# Altium footprint library Connector_Wire.PcbLib: 326 footprints (part 11 of 21)
Each footprint in its own frame and in the unit in brackets; x right, y up, seen from the top. Pads: shape width x height; smd on the part's side, far side on the other; paste and mask are expansions set on the pad; w line width, h text height; cw(c..) or ccw(c..) is an arc to the next point about the centre after c.
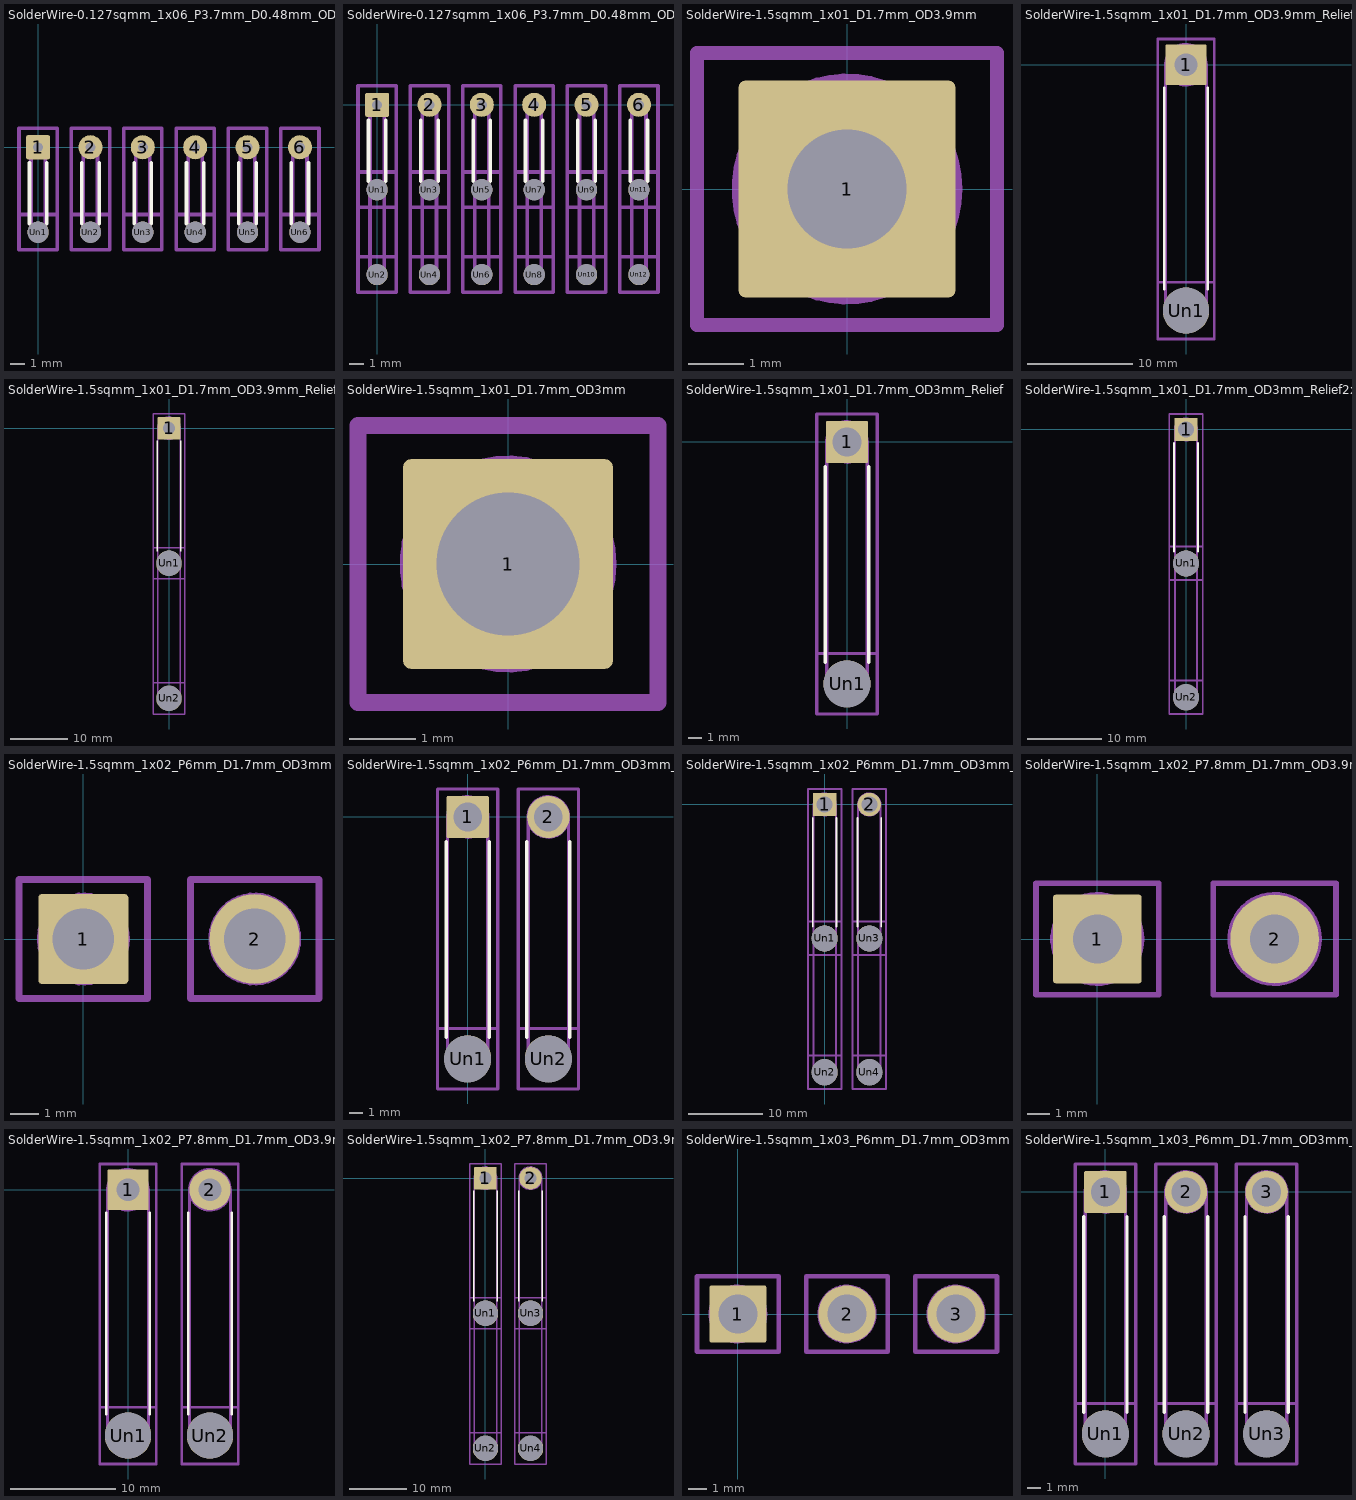
[diagram p10: the footprints below, top view; thin cyan lines are the x and y axes]

## SolderWire-0.127sqmm_1x06_P3.7mm_D0.48mm_OD1mm_Relief [mm]
pads (12):
  rrect15% 1.7x1.7 hole 0.7: 1(0,0)
  round 1.7 hole 0.7: 2(3.7,0) 3(7.4,0) 4(11.1,0) 5(14.8,0) 6(18.5,0)
  round 1.5 hole 1.5: Un1(0,-6) Un2(3.7,-6) Un3(7.4,-6) Un4(11.1,-6) Un5(14.8,-6) Un6(18.5,-6)
F.SilkS:
  lines w0.254: -0.61,-5.39 -0.61,-1.11 ; 0.61,-5.39 0.61,-1.11 ; 3.09,-5.39 3.09,-1.11 ; 4.31,-5.39 4.31,-1.11 ; 6.79,-5.39 6.79,-1.11 ; 8.01,-5.39 8.01,-1.11 ; 10.49,-5.39 10.49,-1.11 ; 11.71,-5.39 11.71,-1.11 ; 14.19,-5.39 14.19,-1.11 ; 15.41,-5.39 15.41,-1.11 ; 17.89,-5.39 17.89,-1.11 ; 19.11,-5.39 19.11,-1.11
Top Assembly:
  circle w0.254: c18.5,-6 r0.5
  circle w0.254: c18.5,0 r0.5
  circle w0.254: c14.8,-6 r0.5
  circle w0.254: c14.8,0 r0.5
  circle w0.254: c11.1,-6 r0.5
  circle w0.254: c11.1,0 r0.5
  circle w0.254: c7.4,-6 r0.5
  circle w0.254: c7.4,0 r0.5
  circle w0.254: c3.7,-6 r0.5
  circle w0.254: c3.7,0 r0.5
  circle w0.254: c0,-6 r0.5
  circle w0.254: c0,0 r0.5
  lines w0.254: -0.5,-6 -0.5,0 ; 0.5,-6 0.5,0 ; 3.2,-6 3.2,0 ; 4.2,-6 4.2,0 ; 6.9,-6 6.9,0 ; 7.9,-6 7.9,0 ; 10.6,-6 10.6,0 ; 11.6,-6 11.6,0 ; 14.3,-6 14.3,0 ; 15.3,-6 15.3,0 ; 18,-6 18,0 ; 19,-6 19,0
  text "'.Designator'" at 9.922,-6.237 h0.8
Top Courtyard:
  lines w0.254: -1.35,-7.25 1.35,-7.25 1.35,1.35 -1.35,1.35 -1.35,-7.25 ; 2.35,-7.25 5.05,-7.25 5.05,1.35 2.35,1.35 2.35,-7.25 ; 6.05,-7.25 8.75,-7.25 8.75,1.35 6.05,1.35 6.05,-7.25 ; 9.75,-7.25 12.45,-7.25 12.45,1.35 9.75,1.35 9.75,-7.25 ; 13.45,-7.25 16.15,-7.25 16.15,1.35 13.45,1.35 13.45,-7.25 ; 17.15,-7.25 19.85,-7.25 19.85,1.35 17.15,1.35 17.15,-7.25
Bottom Courtyard:
  lines w0.254: -1.35,-7.25 1.35,-7.25 1.35,-4.75 -1.35,-4.75 -1.35,-7.25 ; 2.35,-7.25 5.05,-7.25 5.05,-4.75 2.35,-4.75 2.35,-7.25 ; 6.05,-7.25 8.75,-7.25 8.75,-4.75 6.05,-4.75 6.05,-7.25 ; 9.75,-7.25 12.45,-7.25 12.45,-4.75 9.75,-4.75 9.75,-7.25 ; 13.45,-7.25 16.15,-7.25 16.15,-4.75 13.45,-4.75 13.45,-7.25 ; 17.15,-7.25 19.85,-7.25 19.85,-4.75 17.15,-4.75 17.15,-7.25
Top Designator:
  text ".Designator" at 1.632,-3.458 h1.52

## SolderWire-0.127sqmm_1x06_P3.7mm_D0.48mm_OD1mm_Relief2x [mm]
pads (18):
  rrect15% 1.7x1.7 hole 0.7: 1(0,0)
  round 1.7 hole 0.7: 2(3.7,0) 3(7.4,0) 4(11.1,0) 5(14.8,0) 6(18.5,0)
  round 1.5 hole 1.5: Un1(0,-6) Un2(0,-12) Un3(3.7,-6) Un4(3.7,-12) Un5(7.4,-6) Un6(7.4,-12) Un7(11.1,-6) Un8(11.1,-12) Un9(14.8,-6) Un10(14.8,-12) Un11(18.5,-6) Un12(18.5,-12)
F.SilkS:
  lines w0.254: -0.61,-5.39 -0.61,-1.11 ; 0.61,-5.39 0.61,-1.11 ; 3.09,-5.39 3.09,-1.11 ; 4.31,-5.39 4.31,-1.11 ; 6.79,-5.39 6.79,-1.11 ; 8.01,-5.39 8.01,-1.11 ; 10.49,-5.39 10.49,-1.11 ; 11.71,-5.39 11.71,-1.11 ; 14.19,-5.39 14.19,-1.11 ; 15.41,-5.39 15.41,-1.11 ; 17.89,-5.39 17.89,-1.11 ; 19.11,-5.39 19.11,-1.11
B.SilkS:
  lines w0.254: -0.61,-11.39 -0.61,-6.61 ; 0.61,-11.39 0.61,-6.61 ; 3.09,-11.39 3.09,-6.61 ; 4.31,-11.39 4.31,-6.61 ; 6.79,-11.39 6.79,-6.61 ; 8.01,-11.39 8.01,-6.61 ; 10.49,-11.39 10.49,-6.61 ; 11.71,-11.39 11.71,-6.61 ; 14.19,-11.39 14.19,-6.61 ; 15.41,-11.39 15.41,-6.61 ; 17.89,-11.39 17.89,-6.61 ; 19.11,-11.39 19.11,-6.61
Top Assembly:
  circle w0.254: c18.5,-12 r0.5
  circle w0.254: c18.5,-6 r0.5
  circle w0.254: c18.5,0 r0.5
  circle w0.254: c14.8,-12 r0.5
  circle w0.254: c14.8,-6 r0.5
  circle w0.254: c14.8,0 r0.5
  circle w0.254: c11.1,-12 r0.5
  circle w0.254: c11.1,-6 r0.5
  circle w0.254: c11.1,0 r0.5
  circle w0.254: c7.4,-12 r0.5
  circle w0.254: c7.4,-6 r0.5
  circle w0.254: c7.4,0 r0.5
  circle w0.254: c3.7,-12 r0.5
  circle w0.254: c3.7,-6 r0.5
  circle w0.254: c3.7,0 r0.5
  circle w0.254: c0,-12 r0.5
  circle w0.254: c0,-6 r0.5
  circle w0.254: c0,0 r0.5
  lines w0.254: -0.5,-6 -0.5,0 ; 0.5,-6 0.5,0 ; 3.2,-6 3.2,0 ; 4.2,-6 4.2,0 ; 6.9,-6 6.9,0 ; 7.9,-6 7.9,0 ; 10.6,-6 10.6,0 ; 11.6,-6 11.6,0 ; 14.3,-6 14.3,0 ; 15.3,-6 15.3,0 ; 18,-6 18,0 ; 19,-6 19,0
  text "'.Designator'" at 9.922,-6.237 h0.8
Bottom Assembly:
  circle w0.254: c18.5,-12 r0.5
  circle w0.254: c18.5,-6 r0.5
  circle w0.254: c14.8,-12 r0.5
  circle w0.254: c14.8,-6 r0.5
  circle w0.254: c11.1,-12 r0.5
  circle w0.254: c11.1,-6 r0.5
  circle w0.254: c7.4,-12 r0.5
  circle w0.254: c7.4,-6 r0.5
  circle w0.254: c3.7,-12 r0.5
  circle w0.254: c3.7,-6 r0.5
  circle w0.254: c0,-12 r0.5
  circle w0.254: c0,-6 r0.5
  lines w0.254: -0.5,-12 -0.5,-6 ; 0.5,-12 0.5,-6 ; 3.2,-12 3.2,-6 ; 4.2,-12 4.2,-6 ; 6.9,-12 6.9,-6 ; 7.9,-12 7.9,-6 ; 10.6,-12 10.6,-6 ; 11.6,-12 11.6,-6 ; 14.3,-12 14.3,-6 ; 15.3,-12 15.3,-6 ; 18,-12 18,-6 ; 19,-12 19,-6
Top Courtyard:
  lines w0.254: -1.35,-13.25 1.35,-13.25 1.35,-10.75 -1.35,-10.75 -1.35,-13.25 ; -1.35,-7.25 1.35,-7.25 1.35,1.35 -1.35,1.35 -1.35,-7.25 ; 2.35,-13.25 5.05,-13.25 5.05,-10.75 2.35,-10.75 2.35,-13.25 ; 2.35,-7.25 5.05,-7.25 5.05,1.35 2.35,1.35 2.35,-7.25 ; 6.05,-13.25 8.75,-13.25 8.75,-10.75 6.05,-10.75 6.05,-13.25 ; 6.05,-7.25 8.75,-7.25 8.75,1.35 6.05,1.35 6.05,-7.25 ; 9.75,-13.25 12.45,-13.25 12.45,-10.75 9.75,-10.75 9.75,-13.25 ; 9.75,-7.25 12.45,-7.25 12.45,1.35 9.75,1.35 9.75,-7.25 ; 13.45,-13.25 16.15,-13.25 16.15,-10.75 13.45,-10.75 13.45,-13.25 ; 13.45,-7.25 16.15,-7.25 16.15,1.35 13.45,1.35 13.45,-7.25 ; 17.15,-13.25 19.85,-13.25 19.85,-10.75 17.15,-10.75 17.15,-13.25 ; 17.15,-7.25 19.85,-7.25 19.85,1.35 17.15,1.35 17.15,-7.25
Bottom Courtyard:
  lines w0.254: -1.35,-13.25 1.35,-13.25 1.35,-4.75 -1.35,-4.75 -1.35,-13.25 ; 2.35,-13.25 5.05,-13.25 5.05,-4.75 2.35,-4.75 2.35,-13.25 ; 6.05,-13.25 8.75,-13.25 8.75,-4.75 6.05,-4.75 6.05,-13.25 ; 9.75,-13.25 12.45,-13.25 12.45,-4.75 9.75,-4.75 9.75,-13.25 ; 13.45,-13.25 16.15,-13.25 16.15,-4.75 13.45,-4.75 13.45,-13.25 ; 17.15,-13.25 19.85,-13.25 19.85,-4.75 17.15,-4.75 17.15,-13.25
Top Designator:
  text ".Designator" at 1.632,-6.458 h1.52

## SolderWire-1.5sqmm_1x01_D1.7mm_OD3.9mm [mm]
pads (1):
  rrect6% 3.9x3.9 hole 2.15: 1(0,0)
Top Assembly:
  circle w0.254: c0,0 r1.95
  text "'.Designator'" at -3.969,-0.827 h0.98
Top Courtyard:
  lines w0.254: -2.7,-2.45 2.7,-2.45 2.7,2.45 -2.7,2.45 -2.7,-2.45
Top Designator:
  text ".Designator" at -7.768,-0.508 h1.52

## SolderWire-1.5sqmm_1x01_D1.7mm_OD3.9mm_Relief [mm]
pads (2):
  rrect6% 3.9x3.9 hole 2.15: 1(0,0)
  round 4.4 hole 4.4: Un1(0,-23.4)
F.SilkS:
  lines w0.254: -2.06,-21.34 -2.06,-2.21 ; 2.06,-21.34 2.06,-2.21
Top Assembly:
  circle w0.254: c0,-23.4 r1.95
  circle w0.254: c0,0 r1.95
  lines w0.254: -1.95,-23.4 -1.95,0 ; 1.95,-23.4 1.95,0
  text "'.Designator'" at 0.84,-15.747 h1
Top Courtyard:
  lines w0.254: -2.7,-26.1 2.7,-26.1 2.7,2.45 -2.7,2.45 -2.7,-26.1
Bottom Courtyard:
  lines w0.254: -2.7,-26.1 2.7,-26.1 2.7,-20.7 -2.7,-20.7 -2.7,-26.1
Top Designator:
  text ".Designator" at -7.618,-12.333 h1.52

## SolderWire-1.5sqmm_1x01_D1.7mm_OD3.9mm_Relief2x [mm]
pads (3):
  rrect6% 3.9x3.9 hole 2.15: 1(0,0)
  round 4.4 hole 4.4: Un1(0,-23.4) Un2(0,-46.8)
F.SilkS:
  lines w0.254: -2.06,-21.34 -2.06,-2.21 ; 2.06,-21.34 2.06,-2.21
B.SilkS:
  lines w0.254: -2.06,-44.74 -2.06,-25.46 ; 2.06,-44.74 2.06,-25.46
Top Assembly:
  circle w0.254: c0,-46.8 r1.95
  circle w0.254: c0,-23.4 r1.95
  circle w0.254: c0,0 r1.95
  lines w0.254: -1.95,-23.4 -1.95,0 ; 1.95,-23.4 1.95,0
  text "'.Designator'" at 0.84,-15.747 h1
Bottom Assembly:
  circle w0.254: c0,-46.8 r1.95
  circle w0.254: c0,-23.4 r1.95
  lines w0.254: -1.95,-46.8 -1.95,-23.4 ; 1.95,-46.8 1.95,-23.4
Top Courtyard:
  lines w0.254: -2.7,-49.5 2.7,-49.5 2.7,-44.1 -2.7,-44.1 -2.7,-49.5 ; -2.7,-26.1 2.7,-26.1 2.7,2.45 -2.7,2.45 -2.7,-26.1
Bottom Courtyard:
  lines w0.254: -2.7,-49.5 2.7,-49.5 2.7,-20.7 -2.7,-20.7 -2.7,-49.5
Top Designator:
  text ".Designator" at -7.618,-24.033 h1.52

## SolderWire-1.5sqmm_1x01_D1.7mm_OD3mm [mm]
pads (1):
  rrect8% 3.15x3.15 hole 2.15: 1(0,0)
Top Assembly:
  circle w0.254: c0,0 r1.5
  text "'.Designator'" at -3.033,-0.628 h0.75
Top Courtyard:
  lines w0.254: -2.25,-2.08 2.25,-2.08 2.25,2.08 -2.25,2.08 -2.25,-2.08
Top Designator:
  text ".Designator" at -7.728,-0.508 h1.52

## SolderWire-1.5sqmm_1x01_D1.7mm_OD3mm_Relief [mm]
pads (2):
  rrect8% 3.15x3.15 hole 2.15: 1(0,0)
  round 3.5 hole 3.5: Un1(0,-18)
F.SilkS:
  lines w0.254: -1.61,-16.39 -1.61,-1.835 ; 1.61,-16.39 1.61,-1.835
Top Assembly:
  circle w0.254: c0,-18 r1.5
  circle w0.254: c0,0 r1.5
  lines w0.254: -1.5,-18 -1.5,0 ; 1.5,-18 1.5,0
  text "'.Designator'" at 0.84,-13.047 h1
Top Courtyard:
  lines w0.254: -2.25,-20.25 2.25,-20.25 2.25,2.08 -2.25,2.08 -2.25,-20.25
Bottom Courtyard:
  lines w0.254: -2.25,-20.25 2.25,-20.25 2.25,-15.75 -2.25,-15.75 -2.25,-20.25
Top Designator:
  text ".Designator" at -7.618,-9.593 h1.52

## SolderWire-1.5sqmm_1x01_D1.7mm_OD3mm_Relief2x [mm]
pads (3):
  rrect8% 3.15x3.15 hole 2.15: 1(0,0)
  round 3.5 hole 3.5: Un1(0,-18) Un2(0,-36)
F.SilkS:
  lines w0.254: -1.61,-16.39 -1.61,-1.835 ; 1.61,-16.39 1.61,-1.835
B.SilkS:
  lines w0.254: -1.61,-34.39 -1.61,-19.61 ; 1.61,-34.39 1.61,-19.61
Top Assembly:
  circle w0.254: c0,-36 r1.5
  circle w0.254: c0,-18 r1.5
  circle w0.254: c0,0 r1.5
  lines w0.254: -1.5,-18 -1.5,0 ; 1.5,-18 1.5,0
  text "'.Designator'" at 0.84,-13.047 h1
Bottom Assembly:
  circle w0.254: c0,-36 r1.5
  circle w0.254: c0,-18 r1.5
  lines w0.254: -1.5,-36 -1.5,-18 ; 1.5,-36 1.5,-18
Top Courtyard:
  lines w0.254: -2.25,-38.25 2.25,-38.25 2.25,-33.75 -2.25,-33.75 -2.25,-38.25 ; -2.25,-20.25 2.25,-20.25 2.25,2.08 -2.25,2.08 -2.25,-20.25
Bottom Courtyard:
  lines w0.254: -2.25,-38.25 2.25,-38.25 2.25,-15.75 -2.25,-15.75 -2.25,-38.25
Top Designator:
  text ".Designator" at -7.618,-18.593 h1.52

## SolderWire-1.5sqmm_1x02_P6mm_D1.7mm_OD3mm [mm]
pads (2):
  rrect8% 3.15x3.15 hole 2.15: 1(0,0)
  round 3.15 hole 2.15: 2(6,0)
Top Assembly:
  circle w0.254: c6,0 r1.5
  circle w0.254: c0,0 r1.5
  text "'.Designator'" at 3.84,-4.047 h1
Top Courtyard:
  lines w0.254: -2.25,-2.08 2.25,-2.08 2.25,2.08 -2.25,2.08 -2.25,-2.08 ; 3.75,-2.08 8.25,-2.08 8.25,2.08 3.75,2.08 3.75,-2.08
Top Designator:
  text ".Designator" at -4.618,-0.658 h1.52

## SolderWire-1.5sqmm_1x02_P6mm_D1.7mm_OD3mm_Relief [mm]
pads (4):
  rrect8% 3.15x3.15 hole 2.15: 1(0,0)
  round 3.15 hole 2.15: 2(6,0)
  round 3.5 hole 3.5: Un1(0,-18) Un2(6,-18)
F.SilkS:
  lines w0.254: -1.61,-16.39 -1.61,-1.835 ; 1.61,-16.39 1.61,-1.835 ; 4.39,-16.39 4.39,-1.835 ; 7.61,-16.39 7.61,-1.835
Top Assembly:
  circle w0.254: c6,-18 r1.5
  circle w0.254: c6,0 r1.5
  circle w0.254: c0,-18 r1.5
  circle w0.254: c0,0 r1.5
  lines w0.254: -1.5,-18 -1.5,0 ; 1.5,-18 1.5,0 ; 4.5,-18 4.5,0 ; 7.5,-18 7.5,0
  text "'.Designator'" at 3.84,-13.047 h1
Top Courtyard:
  lines w0.254: -2.25,-20.25 2.25,-20.25 2.25,2.08 -2.25,2.08 -2.25,-20.25 ; 3.75,-20.25 8.25,-20.25 8.25,2.08 3.75,2.08 3.75,-20.25
Bottom Courtyard:
  lines w0.254: -2.25,-20.25 2.25,-20.25 2.25,-15.75 -2.25,-15.75 -2.25,-20.25 ; 3.75,-20.25 8.25,-20.25 8.25,-15.75 3.75,-15.75 3.75,-20.25
Top Designator:
  text ".Designator" at -4.618,-9.593 h1.52

## SolderWire-1.5sqmm_1x02_P6mm_D1.7mm_OD3mm_Relief2x [mm]
pads (6):
  rrect8% 3.15x3.15 hole 2.15: 1(0,0)
  round 3.15 hole 2.15: 2(6,0)
  round 3.5 hole 3.5: Un1(0,-18) Un2(0,-36) Un3(6,-18) Un4(6,-36)
F.SilkS:
  lines w0.254: -1.61,-16.39 -1.61,-1.835 ; 1.61,-16.39 1.61,-1.835 ; 4.39,-16.39 4.39,-1.835 ; 7.61,-16.39 7.61,-1.835
B.SilkS:
  lines w0.254: -1.61,-34.39 -1.61,-19.61 ; 1.61,-34.39 1.61,-19.61 ; 4.39,-34.39 4.39,-19.61 ; 7.61,-34.39 7.61,-19.61
Top Assembly:
  circle w0.254: c6,-36 r1.5
  circle w0.254: c6,-18 r1.5
  circle w0.254: c6,0 r1.5
  circle w0.254: c0,-36 r1.5
  circle w0.254: c0,-18 r1.5
  circle w0.254: c0,0 r1.5
  lines w0.254: -1.5,-18 -1.5,0 ; 1.5,-18 1.5,0 ; 4.5,-18 4.5,0 ; 7.5,-18 7.5,0
  text "'.Designator'" at 3.84,-13.047 h1
Bottom Assembly:
  circle w0.254: c6,-36 r1.5
  circle w0.254: c6,-18 r1.5
  circle w0.254: c0,-36 r1.5
  circle w0.254: c0,-18 r1.5
  lines w0.254: -1.5,-36 -1.5,-18 ; 1.5,-36 1.5,-18 ; 4.5,-36 4.5,-18 ; 7.5,-36 7.5,-18
Top Courtyard:
  lines w0.254: -2.25,-38.25 2.25,-38.25 2.25,-33.75 -2.25,-33.75 -2.25,-38.25 ; -2.25,-20.25 2.25,-20.25 2.25,2.08 -2.25,2.08 -2.25,-20.25 ; 3.75,-38.25 8.25,-38.25 8.25,-33.75 3.75,-33.75 3.75,-38.25 ; 3.75,-20.25 8.25,-20.25 8.25,2.08 3.75,2.08 3.75,-20.25
Bottom Courtyard:
  lines w0.254: -2.25,-38.25 2.25,-38.25 2.25,-15.75 -2.25,-15.75 -2.25,-38.25 ; 3.75,-38.25 8.25,-38.25 8.25,-15.75 3.75,-15.75 3.75,-38.25
Top Designator:
  text ".Designator" at -4.618,-18.593 h1.52

## SolderWire-1.5sqmm_1x02_P7.8mm_D1.7mm_OD3.9mm [mm]
pads (2):
  rrect6% 3.9x3.9 hole 2.15: 1(0,0)
  round 3.9 hole 2.15: 2(7.8,0)
Top Assembly:
  circle w0.254: c7.8,0 r1.95
  circle w0.254: c0,0 r1.95
  text "'.Designator'" at 4.74,-4.047 h1
Top Courtyard:
  lines w0.254: -2.7,-2.45 2.7,-2.45 2.7,2.45 -2.7,2.45 -2.7,-2.45 ; 5.1,-2.45 10.5,-2.45 10.5,2.45 5.1,2.45 5.1,-2.45
Top Designator:
  text ".Designator" at -3.718,-0.658 h1.52

## SolderWire-1.5sqmm_1x02_P7.8mm_D1.7mm_OD3.9mm_Relief [mm]
pads (4):
  rrect6% 3.9x3.9 hole 2.15: 1(0,0)
  round 3.9 hole 2.15: 2(7.8,0)
  round 4.4 hole 4.4: Un1(0,-23.4) Un2(7.8,-23.4)
F.SilkS:
  lines w0.254: -2.06,-21.34 -2.06,-2.21 ; 2.06,-21.34 2.06,-2.21 ; 5.74,-21.34 5.74,-2.21 ; 9.86,-21.34 9.86,-2.21
Top Assembly:
  circle w0.254: c7.8,-23.4 r1.95
  circle w0.254: c7.8,0 r1.95
  circle w0.254: c0,-23.4 r1.95
  circle w0.254: c0,0 r1.95
  lines w0.254: -1.95,-23.4 -1.95,0 ; 1.95,-23.4 1.95,0 ; 5.85,-23.4 5.85,0 ; 9.75,-23.4 9.75,0
  text "'.Designator'" at 4.74,-15.747 h1
Top Courtyard:
  lines w0.254: -2.7,-26.1 2.7,-26.1 2.7,2.45 -2.7,2.45 -2.7,-26.1 ; 5.1,-26.1 10.5,-26.1 10.5,2.45 5.1,2.45 5.1,-26.1
Bottom Courtyard:
  lines w0.254: -2.7,-26.1 2.7,-26.1 2.7,-20.7 -2.7,-20.7 -2.7,-26.1 ; 5.1,-26.1 10.5,-26.1 10.5,-20.7 5.1,-20.7 5.1,-26.1
Top Designator:
  text ".Designator" at -3.718,-12.333 h1.52

## SolderWire-1.5sqmm_1x02_P7.8mm_D1.7mm_OD3.9mm_Relief2x [mm]
pads (6):
  rrect6% 3.9x3.9 hole 2.15: 1(0,0)
  round 3.9 hole 2.15: 2(7.8,0)
  round 4.4 hole 4.4: Un1(0,-23.4) Un2(0,-46.8) Un3(7.8,-23.4) Un4(7.8,-46.8)
F.SilkS:
  lines w0.254: -2.06,-21.34 -2.06,-2.21 ; 2.06,-21.34 2.06,-2.21 ; 5.74,-21.34 5.74,-2.21 ; 9.86,-21.34 9.86,-2.21
B.SilkS:
  lines w0.254: -2.06,-44.74 -2.06,-25.46 ; 2.06,-44.74 2.06,-25.46 ; 5.74,-44.74 5.74,-25.46 ; 9.86,-44.74 9.86,-25.46
Top Assembly:
  circle w0.254: c7.8,-46.8 r1.95
  circle w0.254: c7.8,-23.4 r1.95
  circle w0.254: c7.8,0 r1.95
  circle w0.254: c0,-46.8 r1.95
  circle w0.254: c0,-23.4 r1.95
  circle w0.254: c0,0 r1.95
  lines w0.254: -1.95,-23.4 -1.95,0 ; 1.95,-23.4 1.95,0 ; 5.85,-23.4 5.85,0 ; 9.75,-23.4 9.75,0
  text "'.Designator'" at 4.74,-15.747 h1
Bottom Assembly:
  circle w0.254: c7.8,-46.8 r1.95
  circle w0.254: c7.8,-23.4 r1.95
  circle w0.254: c0,-46.8 r1.95
  circle w0.254: c0,-23.4 r1.95
  lines w0.254: -1.95,-46.8 -1.95,-23.4 ; 1.95,-46.8 1.95,-23.4 ; 5.85,-46.8 5.85,-23.4 ; 9.75,-46.8 9.75,-23.4
Top Courtyard:
  lines w0.254: -2.7,-49.5 2.7,-49.5 2.7,-44.1 -2.7,-44.1 -2.7,-49.5 ; -2.7,-26.1 2.7,-26.1 2.7,2.45 -2.7,2.45 -2.7,-26.1 ; 5.1,-49.5 10.5,-49.5 10.5,-44.1 5.1,-44.1 5.1,-49.5 ; 5.1,-26.1 10.5,-26.1 10.5,2.45 5.1,2.45 5.1,-26.1
Bottom Courtyard:
  lines w0.254: -2.7,-49.5 2.7,-49.5 2.7,-20.7 -2.7,-20.7 -2.7,-49.5 ; 5.1,-49.5 10.5,-49.5 10.5,-20.7 5.1,-20.7 5.1,-49.5
Top Designator:
  text ".Designator" at -3.718,-24.033 h1.52

## SolderWire-1.5sqmm_1x03_P6mm_D1.7mm_OD3mm [mm]
pads (3):
  rrect8% 3.15x3.15 hole 2.15: 1(0,0)
  round 3.15 hole 2.15: 2(6,0) 3(12,0)
Top Assembly:
  circle w0.254: c12,0 r1.5
  circle w0.254: c6,0 r1.5
  circle w0.254: c0,0 r1.5
  text "'.Designator'" at 2.967,-0.628 h0.75
Top Courtyard:
  lines w0.254: -2.25,-2.08 2.25,-2.08 2.25,2.08 -2.25,2.08 -2.25,-2.08 ; 3.75,-2.08 8.25,-2.08 8.25,2.08 3.75,2.08 3.75,-2.08 ; 9.75,-2.08 14.25,-2.08 14.25,2.08 9.75,2.08 9.75,-2.08
Top Designator:
  text ".Designator" at -1.618,-0.508 h1.52

## SolderWire-1.5sqmm_1x03_P6mm_D1.7mm_OD3mm_Relief [mm]
pads (6):
  rrect8% 3.15x3.15 hole 2.15: 1(0,0)
  round 3.15 hole 2.15: 2(6,0) 3(12,0)
  round 3.5 hole 3.5: Un1(0,-18) Un2(6,-18) Un3(12,-18)
F.SilkS:
  lines w0.254: -1.61,-16.39 -1.61,-1.835 ; 1.61,-16.39 1.61,-1.835 ; 4.39,-16.39 4.39,-1.835 ; 7.61,-16.39 7.61,-1.835 ; 10.39,-16.39 10.39,-1.835 ; 13.61,-16.39 13.61,-1.835
Top Assembly:
  circle w0.254: c12,-18 r1.5
  circle w0.254: c12,0 r1.5
  circle w0.254: c6,-18 r1.5
  circle w0.254: c6,0 r1.5
  circle w0.254: c0,-18 r1.5
  circle w0.254: c0,0 r1.5
  lines w0.254: -1.5,-18 -1.5,0 ; 1.5,-18 1.5,0 ; 4.5,-18 4.5,0 ; 7.5,-18 7.5,0 ; 10.5,-18 10.5,0 ; 13.5,-18 13.5,0
  text "'.Designator'" at 6.84,-13.047 h1
Top Courtyard:
  lines w0.254: -2.25,-20.25 2.25,-20.25 2.25,2.08 -2.25,2.08 -2.25,-20.25 ; 3.75,-20.25 8.25,-20.25 8.25,2.08 3.75,2.08 3.75,-20.25 ; 9.75,-20.25 14.25,-20.25 14.25,2.08 9.75,2.08 9.75,-20.25
Bottom Courtyard:
  lines w0.254: -2.25,-20.25 2.25,-20.25 2.25,-15.75 -2.25,-15.75 -2.25,-20.25 ; 3.75,-20.25 8.25,-20.25 8.25,-15.75 3.75,-15.75 3.75,-20.25 ; 9.75,-20.25 14.25,-20.25 14.25,-15.75 9.75,-15.75 9.75,-20.25
Top Designator:
  text ".Designator" at -1.618,-9.593 h1.52